# EAGLE library part NCP1200-100 (library NCP1200)
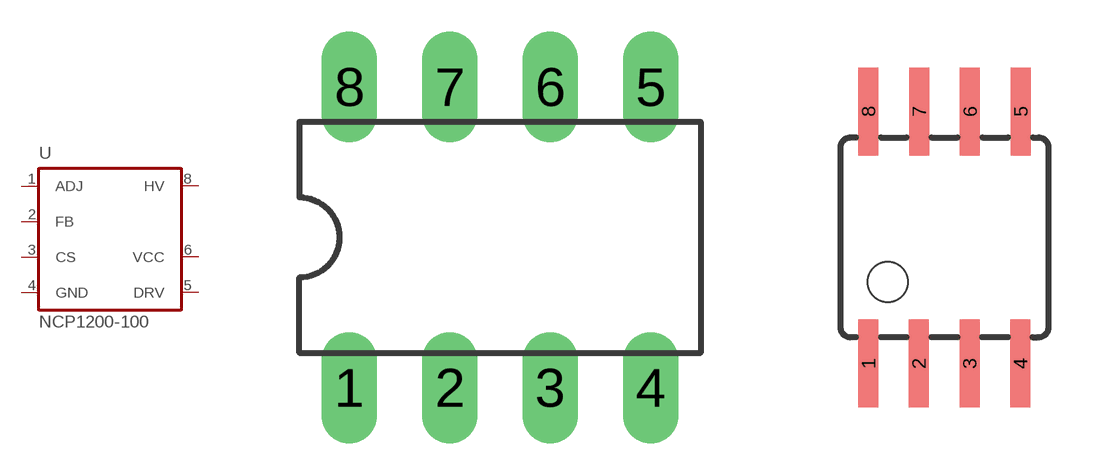
[diagram p0: symbol with the pads of DIP08; footprints DIP08, SOP8]

Designator prefix -

## NCP1200-100DIL  [DIP08]
1  ADJ  pas
2  FB  in
3  CS  in
4  GND  pas
5  DRV  pwr
6  VCC  out
8  HV  pas

## NCP1200-100SO  [SOP8]
Pads as for DIP08

## Footprint DIP08 (pad centres in mm)
drill 0.9 pad 1.27 long: 1 -2.54,-3.81; 2 0,-3.81; 3 2.54,-3.81; 4 5.08,-3.81; 5 5.08,3.81; 6 2.54,3.81; 7 0,3.81; 8 -2.54,3.81

## Footprint SOP8 (pad centres in mm)
smd 0.5 x 2.2: 1 -1.905,-3.154; 2 -0.645,-3.154; 3 0.625,-3.154; 4 1.895,-3.154; 5 1.905,3.154; 6 0.635,3.154; 7 -0.635,3.154; 8 -1.905,3.154